# EAGLE library part MNR04M0ABJ(ELLIPSE) (library rcl_s)
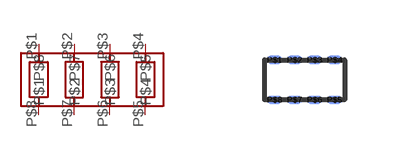
[diagram p2: symbol with the pads of MNR04(ELLIPSE); footprint MNR04(ELLIPSE)]

Designator prefix -

## MNR04M0ABJ(ELLIPSE)  [MNR04(ELLIPSE)]
P$1  P$1
P$2  P$2
P$3  P$3
P$4  P$4
P$5  P$5
P$6  P$6
P$7  P$7
P$8  P$8

## Footprint MNR04(ELLIPSE) (pad centres in mm)
smd 0.406 x 0.203 bottom: P$1 -0.75,0.5; P$2 -0.25,0.5; P$3 0.25,0.5; P$4 0.75,0.5; P$5 0.75,-0.5; P$6 0.25,-0.5; P$7 -0.25,-0.5; P$8 -0.75,-0.5